# Altium schematic symbol library EPG.0B.304.HLN.SchLib: 1 symbol
Pins are listed as number, name and electrical type; pins without a type are passive.

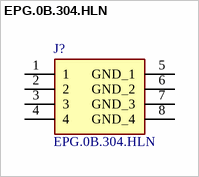
[diagram p0: symbol EPG.0B.304.HLN]

## EPG.0B.304.HLN
designator J?
4 way size 0B PCB mount socket,7A Lemo 0B Series, 4 Pole Right Angle Through Hole Connector Socket, Shell Size 0, with Female Contacts; Geometry.Height: 12.6mm; Mouser Part Number: 736-EPG0B304HLN; Mouser Price/Stock: https://www.mouser.co.uk/ProductDetail/LEMO/EPG.0B.304.HLN?qs=Py8BJuJ8NHuk1oBwrlohFA%3D%3D; Manufacturer_Name: LEMO; Manufacturer_Part_Number: EPG.0B.304.HLN; Datasheet Link: https://web.lemo.com/img/resources/catalog/ROW/UK_English/unipole_multipole.pdf
footprint EPG0B304HLN
pins: 1, 2, 3, 4, 5 GND_1, 6 GND_2, 7 GND_3, 8 GND_4